# EAGLE library part RESISTOR_ARRAY (library PaxInstruments-RCL)
Array of four resistors.
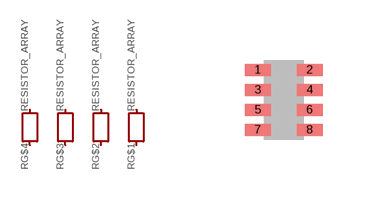
[diagram p0: symbol with the pads of 0402X4; footprint 0402X4]

Designator prefix R; gates G$1=RESISTOR_FIXED G$2=RESISTOR_FIXED G$3=RESISTOR_FIXED G$4=RESISTOR_FIXED

## RESISTOR_ARRAY_0402X4, RESISTOR_ARRAY_1.5K_0402X4 (VALUE: 1.5K), RESISTOR_ARRAY_10K_0402X4 (VALUE: 10K)  [0402X4]
1  G$1:1  pas
2  G$1:2  pas
3  G$2:1  pas
4  G$2:2  pas
5  G$3:1  pas
6  G$3:2  pas
7  G$4:1  pas
8  G$4:2  pas

## Footprint 0402X4 (pad centres in mm)
smd 0.65 x 0.3: 1 -0.65,0.75; 2 0.65,0.75; 3 -0.65,0.25; 4 0.65,0.25; 5 -0.65,-0.25; 6 0.65,-0.25; 7 -0.65,-0.75; 8 0.65,-0.75